# Altium footprint library PcbLib1.PcbLib: 8 footprints
Each footprint in its own frame and in the unit in brackets; x right, y up, seen from the top. Pads: shape width x height; smd on the part's side, far side on the other; paste and mask are expansions set on the pad; w line width, h text height; cw(c..) or ccw(c..) is an arc to the next point about the centre after c.
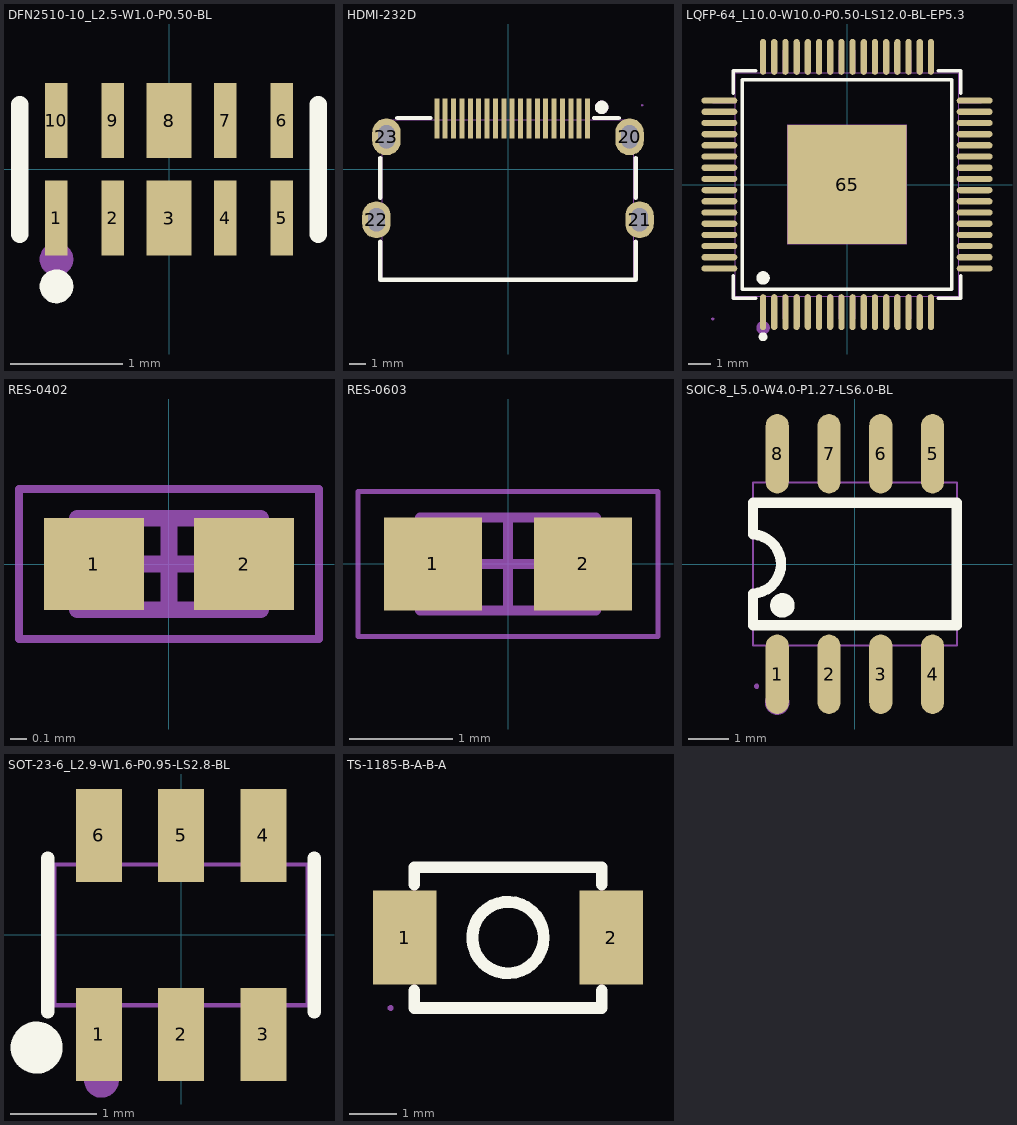
[diagram p0: the footprints below, top view; thin cyan lines are the x and y axes]

## DFN2510-10_L2.5-W1.0-P0.50-BL [mm]
pads (10):
  rect 0.2x0.665 smd paste-100 mask+0.051: 1(-1,-0.433) 2(-0.5,-0.433) 4(0.5,-0.433) 5(1,-0.433) 6(1,0.433) 7(0.5,0.433) 9(-0.5,0.433) 10(-1,0.433)
  rect 0.4x0.665 smd paste-100 mask+0.051: 3(0,-0.433) 8(0,0.433)
Top Overlay:
  circle w0.15: c-1,-1.04 r0.075
  lines w0.152: -1.326,-0.576 -1.326,0.576 ; 1.326,-0.576 1.326,0.576
Top Paste:
  region: -0.2,-0.1 0.2,-0.1 0.2,-0.765 -0.2,-0.765 -0.2,-0.766
  region: -0.2,0.765 0.2,0.765 0.2,0.1 -0.2,0.1
  region: -0.601,-0.1 -0.4,-0.1 -0.4,-0.765 -0.6,-0.765
  region: -1.101,-0.1 -0.9,-0.1 -0.9,-0.765 -1.1,-0.765
  region: 0.399,-0.1 0.6,-0.1 0.6,-0.765 0.4,-0.765
  region: 0.899,-0.1 1.1,-0.1 1.1,-0.765 0.9,-0.765
  region: 0.899,0.765 1.1,0.765 1.1,0.101 0.9,0.101
  region: 0.399,0.765 0.6,0.765 0.6,0.101 0.4,0.101
  region: -0.601,0.765 -0.4,0.765 -0.4,0.101 -0.6,0.101
  region: -1.101,0.765 -0.9,0.765 -0.9,0.101 -1.1,0.101
Mechanical 15:
  circle w0.15: c-1,-0.8 r0.075

## HDMI-232D [mm]
pads (23):
  rect 0.3x2.4 smd paste-100 mask+0.051: 1(4.75,3.025) 2(4.25,3.025) 3(3.75,3.025) 4(3.25,3.025) 5(2.75,3.025) 6(2.25,3.025) 7(1.75,3.025) 8(1.25,3.025) 9(0.75,3.025) 10(0.25,3.025) 11(-0.25,3.025) 12(-0.75,3.025) 13(-1.25,3.025) 14(-1.75,3.025) 15(-2.25,3.025) 16(-2.75,3.025) 17(-3.25,3.025) 18(-3.75,3.025) 19(-4.25,3.025)
  oval 1.7x2.2 hole 1 slot 1.4 at 90 deg: 20(7.25,1.925) 21(7.85,-3.025) 22(-7.85,-3.025) 23(-7.25,1.925)
Top Overlay:
  circle w0.4: c5.588,3.683 r0.2
  lines w0.254: -7.62,-4.331 -7.62,-6.604 7.62,-6.604 7.62,-4.331 ; -7.62,-1.719 -7.62,0.659 ; -6.614,3.048 -4.631,3.048 ; 5.131,3.048 6.614,3.048 ; 7.62,-1.719 7.62,0.659
Top Paste:
  drawing of 23 lines, arcs and shapes, not listed
Mechanical 6:
  circle w0.4: c5.588,3.683 r0.2
Mechanical 15:
  region: 8.06,3.805 8.06,3.78 8.025,3.745 7.975,3.745 7.94,3.78 7.94,3.805 7.94,3.83 7.975,3.865 8.025,3.865 8.06,3.83
  region: -8,-3.525 -8,-2.525 -7.495,-2.525 -7.495,-3.525
  region: 8,-2.525 8,-3.525 7.495,-3.525 7.495,-2.525
  region: -8,-2.525 -7.7,-2.525 -7.7,-3.525 -8,-3.525
  region: 7.7,-2.525 8,-2.525 8,-3.525 7.7,-3.525
  region: 7.1,2.425 7.4,2.425 7.4,1.425 7.1,1.425
  region: -7.4,2.425 -7.1,2.425 -7.1,1.425 -7.4,1.425
  region: -4.347,3.805 -4.152,3.805 -4.152,2.245 -4.347,2.245
  region: -3.848,3.805 -3.653,3.805 -3.653,2.245 -3.848,2.245
  region: -3.347,3.805 -3.152,3.805 -3.152,2.245 -3.347,2.245
  region: -2.848,3.805 -2.653,3.805 -2.653,2.245 -2.848,2.245
  region: -2.347,3.805 -2.152,3.805 -2.152,2.245 -2.347,2.245
  region: -1.848,3.805 -1.653,3.805 -1.653,2.245 -1.848,2.245
  region: -1.347,3.805 -1.152,3.805 -1.152,2.245 -1.347,2.245
  region: -0.848,3.805 -0.653,3.805 -0.653,2.245 -0.848,2.245
  region: -0.347,3.805 -0.152,3.805 -0.152,2.245 -0.347,2.245
  region: 0.152,3.805 0.347,3.805 0.347,2.245 0.152,2.245
  region: 0.653,3.805 0.848,3.805 0.848,2.245 0.653,2.245
  region: 1.152,3.805 1.347,3.805 1.347,2.245 1.152,2.245
  region: 1.653,3.805 1.848,3.805 1.848,2.245 1.653,2.245
  region: 2.152,3.805 2.347,3.805 2.347,2.245 2.152,2.245
  region: 2.653,3.805 2.848,3.805 2.848,2.245 2.653,2.245
  region: 3.152,3.805 3.347,3.805 3.347,2.245 3.152,2.245
  region: 3.653,3.805 3.848,3.805 3.848,2.245 3.653,2.245
  region: 4.152,3.805 4.347,3.805 4.347,2.245 4.152,2.245
  region: 4.653,3.805 4.848,3.805 4.848,2.245 4.653,2.245
  lines w0.051: -7.5,-6.545 -7.5,2.955 7.5,2.955 7.5,-6.545 -7.5,-6.545

## LQFP-64_L10.0-W10.0-P0.50-LS12.0-BL-EP5.3 [mm]
pads (65):
  oval 0.28x1.6 smd: 1(-3.75,-5.7) 2(-3.25,-5.7) 3(-2.75,-5.7) 4(-2.25,-5.7) 5(-1.75,-5.7) 6(-1.25,-5.7) 7(-0.75,-5.7) 8(-0.25,-5.7) 9(0.25,-5.7) 10(0.75,-5.7) 11(1.25,-5.7) 12(1.75,-5.7) 13(2.25,-5.7) 14(2.75,-5.7) 15(3.25,-5.7) 16(3.75,-5.7) 33(3.75,5.7) 34(3.25,5.7) 35(2.75,5.7) 36(2.25,5.7) 37(1.75,5.7) 38(1.25,5.7) 39(0.75,5.7) 40(0.25,5.7) 41(-0.25,5.7) 42(-0.75,5.7) 43(-1.25,5.7) 44(-1.75,5.7) 45(-2.25,5.7) 46(-2.75,5.7) 47(-3.25,5.7) 48(-3.75,5.7)
  oval 1.6x0.28 smd: 17(5.7,-3.75) 18(5.7,-3.25) 19(5.7,-2.75) 20(5.7,-2.25) 21(5.7,-1.75) 22(5.7,-1.25) 23(5.7,-0.75) 24(5.7,-0.25) 25(5.7,0.25) 26(5.7,0.75) 27(5.7,1.25) 28(5.7,1.75) 29(5.7,2.25) 30(5.7,2.75) 31(5.7,3.25) 32(5.7,3.75) 49(-5.7,3.75) 50(-5.7,3.25) 51(-5.7,2.75) 52(-5.7,2.25) 53(-5.7,1.75) 54(-5.7,1.25) 55(-5.7,0.75) 56(-5.7,0.25) 57(-5.7,-0.25) 58(-5.7,-0.75) 59(-5.7,-1.25) 60(-5.7,-1.75) 61(-5.7,-2.25) 62(-5.7,-2.75) 63(-5.7,-3.25) 64(-5.7,-3.75)
  rect 5.3x5.3 smd: 65(0,0)
Top Overlay:
  circle w0.2: c-3.75,-6.8 r0.1
  circle w0.3: c-3.75,-4.171 r0.15
  lines w0.152: -5.076,-4.081 -5.076,-5.076 -4.081,-5.076 ; -5.076,4.081 -5.076,5.076 -4.081,5.076 ; 4.081,-5.076 5.076,-5.076 5.076,-4.081 ; 4.081,5.076 5.076,5.076 5.076,4.081 ; -4.671,-4.671 -4.671,4.671 4.671,4.671 4.671,-4.671 -4.671,-4.671
Mechanical 6:
  circle w0.3: c-3.75,-6.4 r0.15
Mechanical 15:
  drawing of 134 lines, arcs and shapes, not listed

## RES-0402 [mm] "Chip Resistor, 2-Leads, Body 1.00x0.50mm, IPC Medium Density"
height 0.4
pads (2):
  rect 0.6x0.55 smd: 1(-0.45,0) 2(0.45,0)
Mechanical 13:
  lines w0.1: -0.55,-0.275 0.55,-0.275 0.55,0.275 -0.55,0.275 -0.55,-0.275
Mechanical 15:
  lines w0.05: -0.9,-0.45 0.9,-0.45 0.9,0.45 -0.9,0.45 -0.9,-0.45
  lines w0.1: -0.275,0 0.275,0 ; 0,-0.275 0,0.275
3D body: height 0.4, standoff 0, extent 0.35,-0.275 0.55,0.275
3D body: height 0.4, standoff 0, extent -0.55,-0.275 -0.35,0.275
3D body: height 0.4, standoff 0, extent -0.35,-0.275 0.35,0.275

## RES-0603 [mm] "Chip Resistor, 2-Leads, Body 1.60x0.80mm, IPC Medium Density"
height 0.55
pads (2):
  rect 0.95x0.9 smd: 1(-0.725,0) 2(0.725,0)
Mechanical 13:
  lines w0.1: -0.85,-0.45 0.85,-0.45 0.85,0.45 -0.85,0.45 -0.85,-0.45
Mechanical 15:
  lines w0.05: -1.45,-0.7 1.45,-0.7 1.45,0.7 -1.45,0.7 -1.45,-0.7
  lines w0.1: -0.45,0 0.45,0 ; 0,-0.45 0,0.45
3D body: height 0.55, standoff 0, extent 0.55,-0.45 0.85,0.45
3D body: height 0.55, standoff 0, extent -0.85,-0.45 -0.55,0.45
3D body: height 0.55, standoff 0, extent -0.55,-0.45 0.55,0.45

## SOIC-8_L5.0-W4.0-P1.27-LS6.0-BL [mil]
pads (8):
  oval 22.38x76.78 smd: 1(-75,-106.5) 2(-25,-106.5) 3(25,-106.5) 4(75,-106.5) 5(75,106.5) 6(25,106.5) 7(-25,106.5) 8(-75,106.5)
Top Overlay:
  circle w11.81: c-70,-40 r5.91
  lines w10: -98.43,-28.61 ccw(c-99.99,0) -98.23,28.59 ; -98.42,-28.61 -98.42,-59.05 98.42,-59.05 98.42,59.05 -98.42,59.05 -98.42,28.59
Mechanical 6:
  circle w11.81: c-75,-133.86 r5.91
Mechanical 15:
  region: -92.64,-118.11 -92.64,-119.09 -94.02,-120.47 -95.98,-120.47 -97.36,-119.09 -97.36,-118.11 -97.36,-117.13 -95.98,-115.75 -94.02,-115.75 -92.64,-117.13 -92.64,-118.11
  region: 66.93,76.38 66.93,85.63 83.07,85.63 83.07,76.38
  region: 66.93,85.24 66.93,118.11 83.07,118.11 83.07,85.24
  region: 16.93,76.38 16.93,85.63 33.07,85.63 33.07,76.38
  region: 16.93,85.24 16.93,118.11 33.07,118.11 33.07,85.24
  region: -33.07,76.38 -33.07,85.63 -16.93,85.63 -16.93,76.38
  region: -33.07,85.24 -33.07,118.11 -16.93,118.11 -16.93,85.24
  region: -83.07,76.38 -83.07,85.63 -66.93,85.63 -66.93,76.38
  region: -83.07,85.24 -83.07,118.11 -66.93,118.11 -66.93,85.24
  region: 66.93,-85.63 66.93,-76.38 83.07,-76.38 83.07,-85.63
  region: 66.93,-118.11 66.93,-85.24 83.07,-85.24 83.07,-118.11
  region: 16.93,-85.63 16.93,-76.38 33.07,-76.38 33.07,-85.63
  region: 16.93,-118.11 16.93,-85.24 33.07,-85.24 33.07,-118.11
  region: -33.07,-85.63 -33.07,-76.38 -16.93,-76.38 -16.93,-85.63
  region: -33.07,-118.11 -33.07,-85.24 -16.93,-85.24 -16.93,-118.11
  region: -83.07,-85.63 -83.07,-76.38 -66.93,-76.38 -66.93,-85.63
  region: -83.07,-118.11 -83.07,-85.24 -66.93,-85.24 -66.93,-118.11
  lines w2: -98.42,-78.74 -98.42,78.74 98.42,78.74 98.42,-78.74 -98.42,-78.74

## SOT-23-6_L2.9-W1.6-P0.95-LS2.8-BL [mm]
pads (6):
  rect 0.532x1.072 smd: 1(-0.95,-1.149) 2(0,-1.149) 3(0.95,-1.149) 4(0.95,1.149) 5(0,1.149) 6(-0.95,1.149)
Top Overlay:
  circle w0.3: c-1.668,-1.301 r0.15
  lines w0.152: -1.539,-0.889 -1.539,0.889 ; 1.539,-0.889 1.539,0.889
Mechanical 6:
  circle w0.2: c-0.92,-1.68 r0.1
Mechanical 15:
  region: -1.403,-1.4 -1.403,-1.425 -1.438,-1.46 -1.488,-1.46 -1.523,-1.425 -1.523,-1.4 -1.523,-1.375 -1.488,-1.34 -1.438,-1.34 -1.403,-1.375
  region: -1.165,-0.925 -0.735,-0.925 -0.735,-1.4 -1.165,-1.4
  region: -1.165,-0.803 -0.735,-0.803 -0.735,-0.935 -1.165,-0.935
  region: -0.215,-0.925 0.215,-0.925 0.215,-1.4 -0.215,-1.4
  region: -0.215,-0.803 0.215,-0.803 0.215,-0.935 -0.215,-0.935
  region: 0.735,-0.925 1.165,-0.925 1.165,-1.4 0.735,-1.4
  region: 0.735,-0.803 1.165,-0.803 1.165,-0.935 0.735,-0.935
  region: 0.735,0.925 1.165,0.925 1.165,1.4 0.735,1.4
  region: 0.735,0.935 1.165,0.935 1.165,0.803 0.735,0.803
  region: -0.215,0.925 0.215,0.925 0.215,1.4 -0.215,1.4
  region: -0.215,0.935 0.215,0.935 0.215,0.803 -0.215,0.803
  region: -1.165,0.925 -0.735,0.925 -0.735,1.4 -1.165,1.4
  region: -1.165,0.935 -0.735,0.935 -0.735,0.803 -1.165,0.803
  lines w0.051: -1.463,-0.813 1.463,-0.813 1.463,0.813 -1.463,0.813 -1.463,-0.813

## TS-1185-B-A-B-A [mm]
pads (2):
  rect 1.35x2 smd: 1(11.851,17.181) 2(16.251,17.181)
Top Overlay:
  circle w0.254: c14.051,17.181 r0.762
  lines w0.254: 12.051,16.05 12.051,15.681 16.051,15.681 16.051,16.05 ; 12.051,18.312 12.051,18.681 16.051,18.681 16.051,18.312
Mechanical 15:
  region: 15.854,17.831 16.554,17.831 16.554,16.531 15.854,16.531
  region: 11.548,17.831 12.248,17.831 12.248,16.531 11.548,16.531
  region: 11.608,15.681 11.608,15.656 11.573,15.621 11.523,15.621 11.488,15.656 11.488,15.681 11.488,15.706 11.523,15.741 11.573,15.741 11.608,15.706
  lines w0.051: 12.051,15.681 12.051,18.681 16.051,18.681 16.051,15.681 12.051,15.681